# EAGLE library part OPEN-BLDC_ACS712 (library power)
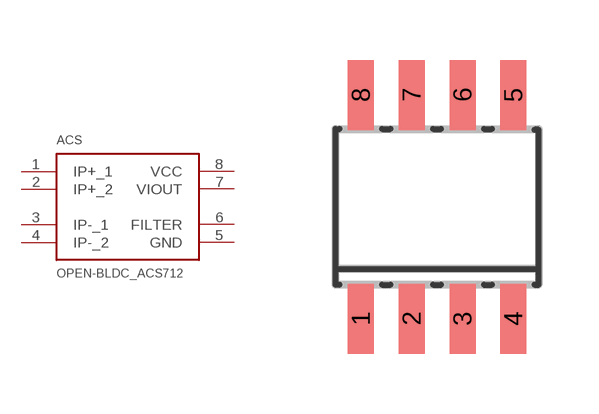
[diagram p0: symbol with the pads of OPEN-BLDC_SO8; footprint OPEN-BLDC_SO8]

Designator prefix ACS

## OPEN-BLDC_ACS712  [OPEN-BLDC_SO8]
1  IP+_1
2  IP+_2
3  IP-_1
4  IP-_2
5  GND
6  FILTER
7  VIOUT
8  VCC

## Footprint OPEN-BLDC_SO8 (pad centres in mm)
Complient to the IPC7351 standard (SOIC127P600X175-8M)
smd 0.65 x 1.75: 1 -1.905,-2.8; 2 -0.635,-2.8; 3 0.635,-2.8; 4 1.905,-2.8; 5 1.905,2.8; 6 0.635,2.8; 7 -0.635,2.8; 8 -1.905,2.8